# Altium footprint library Audio.PcbLib: 8 footprints
Each footprint in its own frame and in the unit in brackets; x right, y up, seen from the top. Pads: shape width x height; smd on the part's side, far side on the other; paste and mask are expansions set on the pad; w line width, h text height; cw(c..) or ccw(c..) is an arc to the next point about the centre after c.
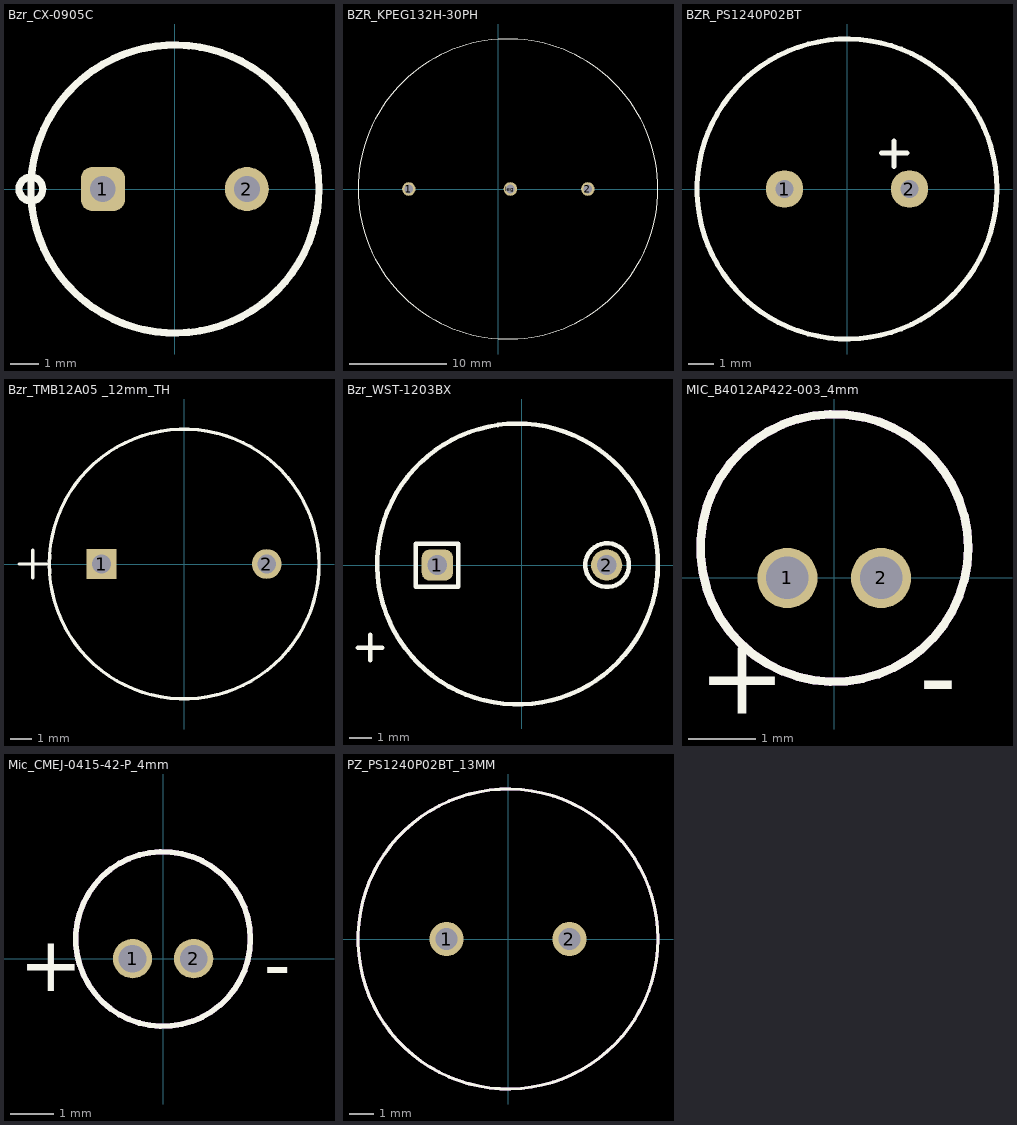
[diagram p0: the footprints below, top view; thin cyan lines are the x and y axes]

## Bzr_CX-0905C [mil] "/ 20210511/ C-A.Serna.A"
pads (2):
  rrect50% 60x60 hole 35: 1(-98.43,0)
  round 60 hole 35: 2(98.43,0)
Top Overlay:
  circle w10: c0,0 r196.89
  circle w10: c-196.85,0 r16.23
3D body "CUI_DEVICES_CX-0905C.step": height 197.35, standoff -216.03, extent -188.98,-190 188.98,187.95

## BZR_KPEG132H-30PH [mil] "/20210511/C-A.Serna.A"
pads (3):
  round 55 hole 35: 1(-364.17,0) 2(364.17,0) leg(49.21,0)
Top Overlay:
  circle w5: c39.37,0 r610.24
3D body: height 0, standoff -118.11, extent 350.21,-15.72 381.58,15.72
3D body: height 0, standoff -118.11, extent 35.21,-15.72 66.58,15.72
3D body: height 0, standoff -118.11, extent -379.92,-15.72 -348.55,15.72
3D body: height 425.2, standoff 0, extent -570.24,-610.13 650.24,610

## BZR_PS1240P02BT [mm] "/20220517/F-A.Ospina"
pads (2):
  round 1.5 hole 0.7: 1(-2.5,0) 2(2.5,0)
Top Overlay:
  circle w0.2: c0,0 r6
  lines w0.2: 1.382,1.44 2.398,1.44 ; 1.88,0.9 1.88,1.916
3D body "PS1240P02BT--3DModel-STEP-56544.STEP": height 6.51, standoff -14.49, extent -6.1,-6.104 6.1,6.096

## Bzr_TMB12A05 _12mm_TH [mil] "/ 20240605/ J.Jaramillo"
pads (2):
  rect 54x54 / inner round 60 / far side rect 54x54 hole 34 paste-99999 mask+0: 1(-150,0)
  round 54 / inner round 60 / far side round 54 hole 34 paste-99999 mask+0: 2(150,0)
Top Overlay:
  circle w6: c0,0 r245
  lines w6: -300,0 -250,0 ; -275,-25 -275,25
3D body "CircuitWorks-BUZZER (SELFGEN).step": height 295.28, standoff -78.74, extent -234.23,-233.69 238.21,238.2

## Bzr_WST-1203BX [mil] "/ 20210511 / C-A.Serna.A"
pads (2):
  rrect50% 55x55 hole 35: 1(-149.61,0)
  round 55 hole 35: 2(149.61,0)
Top Overlay:
  lines w8: -289.61,-146 -246.61,-146 ; -267.61,-168 -267.61,-123 ; 188.78,4.31 ccw(c150.39,0) 188.92,2.84 ; 239.83,16.14 ccw(c-7.79,1.98) 239.88,15.25 ; -187.61,-38 -187.61,38 -112.61,38 -112.61,-38 -187.61,-38
3D body: height 0, standoff -177.17, extent 138.29,-11.78 161.82,11.8
3D body: height 0, standoff -255.91, extent -161.32,-11.78 -137.79,11.8
3D body: height 303.15, standoff 0, extent -239.82,-235.21 232.62,237.23

## MIC_B4012AP422-003_4mm [mm] "/20210511/C-A.Serna.A"
pads (2):
  round 0.9 hole 0.635: 1(-0.7,0) 2(0.7,0)
Top Overlay:
  circle w0.127: c0,0.45 r2
  text "-" at 1.27,-2.032 h1.14
  text "+" at -2.032,-2.032 h1.14
Mechanical 13:
  circle w0.127: c0,0.45 r2
  text "-" at 1.27,-2.032 h1.14
  text "+" at -2.032,-2.032 h1.14
3D body: height 0, standoff -1.5, extent 0.551,-0.15 0.85,0.15
3D body: height 0, standoff -1.5, extent -0.849,-0.15 -0.551,0.15
3D body: height 1.27, standoff 0, extent -2,-1.55 2,2.45

## Mic_CMEJ-0415-42-P_4mm [mm] "/20210511/C-A.Serna.A"
pads (2):
  round 0.9 hole 0.635: 1(-0.7,0) 2(0.7,0)
Top Overlay:
  circle w0.127: c0,0.45 r2
  text "+" at -3.3,-0.75 h1.27
  text "-" at 2.3,-0.75 h1.27
Mechanical 13:
  circle w0.127: c0,0.45 r2
  text "+" at -3.3,-0.75 h1.27
  text "-" at 2.3,-0.75 h1.27
3D body: height 0, standoff -1.8, extent 0.502,-0.199 0.9,0.2
3D body: height 0, standoff -1.8, extent -0.899,-0.2 -0.501,0.2
3D body: height 1.27, standoff 0, extent -2,-1.55 2,2.45

## PZ_PS1240P02BT_13MM [mil] "/20210907"
pads (2):
  round 55 hole 35: 1(-98.43,0) 2(98.43,0)
Top Overlay:
  circle w5: c0,0 r240.16
Mechanical 1:
  circle w5: c0,0 r240.16
3D body "XTAL_PS1240P02BT_TDK.step": height 276.61, standoff -177.99, extent -250.3,-250 250.3,250